# Altium footprint library F-E library custom components.PCBLIB: 4 footprints
Each footprint in its own frame and in the unit in brackets; x right, y up, seen from the top. Pads: shape width x height; smd on the part's side, far side on the other; paste and mask are expansions set on the pad; w line width, h text height; cw(c..) or ccw(c..) is an arc to the next point about the centre after c.
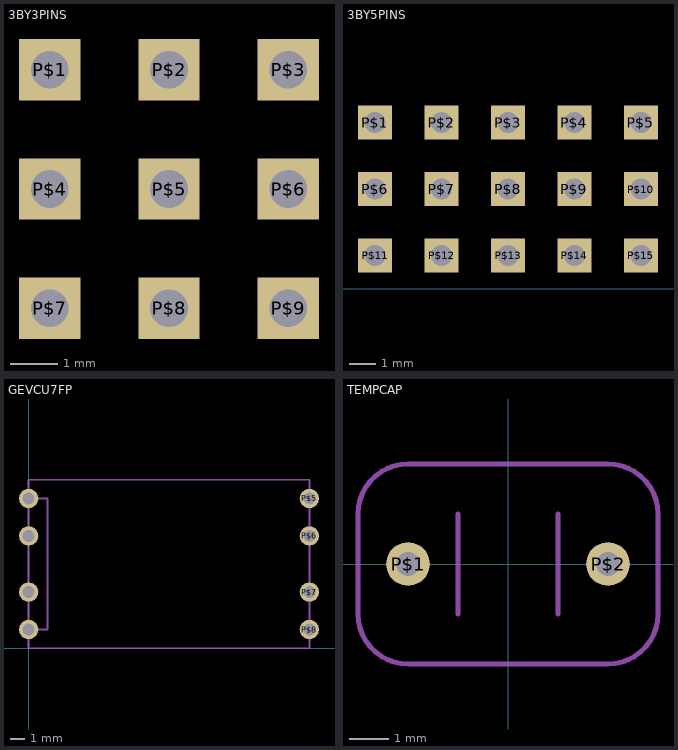
[diagram p0: the footprints below, top view; thin cyan lines are the x and y axes]

## 3BY3PINS [mil]
pads (9):
  rect 51.5x51.5 / inner round 47.58 / far side rect 51.5x51.5 hole 31.5: P$1(50,250) P$2(150,250) P$3(250,250) P$4(50,150) P$5(150,150) P$6(250,150) P$7(50,50) P$8(150,50) P$9(250,50)

## 3BY5PINS [mil]
pads (15):
  rect 51.5x51.5 / inner round 47.58 / far side rect 51.5x51.5 hole 31.5: P$1(50,250) P$2(150,250) P$3(250,250) P$4(350,250) P$5(450,250) P$6(50,150) P$7(150,150) P$8(250,150) P$9(350,150) P$10(450,150) P$11(50,50) P$12(150,50) P$13(250,50) P$14(350,50) P$15(450,50)

## GEVCU7FP [mil]
pads (8):
  round 51.5 hole 31.5: CAN_BUS_1(0,150) CAN_BUS_2(0,50) ISOBUS(0,400) P$5(750,400) P$6(750,300) P$7(750,150) P$8(750,50) STDBUS(0,300)
tPlace:
  lines w5: 0,50 0,400 ; 0,50 0,0 750,0 750,450 0,450 0,400 ; 0,50 50,50 50,400 0,400
  text "GEVCU 7" at 250,200 h77.5

## TEMPCAP [mil]
pads (2):
  round 43.62 hole 23.62: P$1(-100,0) P$2(100,0)
tPlace:
  lines w5: -50,-50 -50,50 ; 50,-50 50,50 ; -150,-50 -150,50 cw(c-100,50) -100,100 100,100 cw(c100,50) 150,50 150,-50 cw(c100,-50) 100,-100 -100,-100 cw(c-100,-50) -150,-50
  text "+" at 50,50 h77.5